# Altium footprint library Common_Mode_Filter.PCBLIB: 2 footprints
Each footprint in its own frame and in the unit in brackets; x right, y up, seen from the top. Pads: shape width x height; smd on the part's side, far side on the other; paste and mask are expansions set on the pad; w line width, h text height; cw(c..) or ccw(c..) is an arc to the next point about the centre after c.
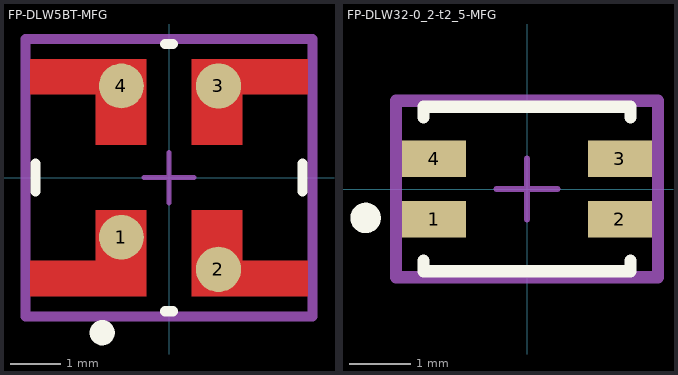
[diagram p0: the footprints below, top view; thin cyan lines are the x and y axes]

## FP-DLW5BT-MFG [mm]
pads (4):
  round 0.889 smd paste+0 mask+0: 1(-0.944,-1.181) 4(-0.944,1.819)
  round 0.897 smd paste+0 mask+0: 2(0.981,-1.819) 3(0.981,1.819)
Top Layer:
  region: -2.75,2.35 -0.45,2.35 -0.45,0.65 -1.45,0.65 -1.45,1.65 -2.75,1.65
  region: 2.75,2.35 0.45,2.35 0.45,0.65 1.45,0.65 1.45,1.65 2.75,1.65
  region: 2.75,-2.35 0.45,-2.35 0.45,-0.65 1.45,-0.65 1.45,-1.65 2.75,-1.65
  region: -2.75,-2.35 -0.45,-2.35 -0.45,-0.65 -1.45,-0.65 -1.45,-1.65 -2.75,-1.65
Top Overlay:
  circle w0.25: c-1.325,-3.075 r0.125
  lines w0.2: -2.65,-0.275 -2.65,0.275 ; -0.075,-2.65 0.075,-2.65 ; -0.075,2.65 0.075,2.65 ; 2.65,-0.275 2.65,0.275
Top Assembly:
  lines w0.2: -2.85,-2.75 -2.85,2.75 2.85,2.75 2.85,-2.75 -2.85,-2.75
Top Courtyard:
  lines w0.2: -2.85,-2.75 -2.85,2.75 2.85,2.75 2.85,-2.75 -2.85,-2.75
Top Designator:
  text ".Designator" at 0,0.188 h1
Top Component Center:
  lines w0.1: -0.5,0 0.5,0 ; 0,-0.5 0,0.5
3D body "Ind_Murata_DLW5BTM101SQ2K_eec.STEP": height 0.25, standoff 0, extent -2.85,-2.75 2.85,2.75

## FP-DLW32-0_2-t2_5-MFG [mm]
pads (4):
  rect 1.05x0.6 smd paste+0 mask+0: 1(-1.525,-0.5) 2(1.525,-0.5) 3(1.525,0.5) 4(-1.525,0.5)
Top Overlay:
  circle w0.25: c-2.65,-0.475 r0.125
  lines w0.2: -1.7,-1.175 -1.7,-1.35 1.7,-1.35 1.7,-1.175 ; -1.7,1.175 -1.7,1.35 1.7,1.35 1.7,1.175
Top Assembly:
  lines w0.2: -2.15,-1.45 2.15,-1.45 2.15,1.45 -2.15,1.45 -2.15,-1.45
Top Courtyard:
  lines w0.2: -2.15,-1.45 2.15,-1.45 2.15,1.45 -2.15,1.45 -2.15,-1.45
Top Designator:
  text ".Designator" at -0.3,-0.112 h1
Top Component Center:
  lines w0.1: -0.5,0 0.5,0 ; 0,-0.5 0,0.5
3D body "Ind_Murata_DLW32SH101XF2B_eec.STEP": height 0.25, standoff 0, extent -2.15,-1.45 2.15,1.45